# EAGLE library part ULN2803AFWG_C,ELHA (library ULN2803AFWG_C_ELHA)
8 Channel High Current Driver SOL18P-300 T+R Lead Source: Datasheet <https://componentsearchengine.com/Datasheets/1/ULN2803AFWG(C,ELHA.pdf>
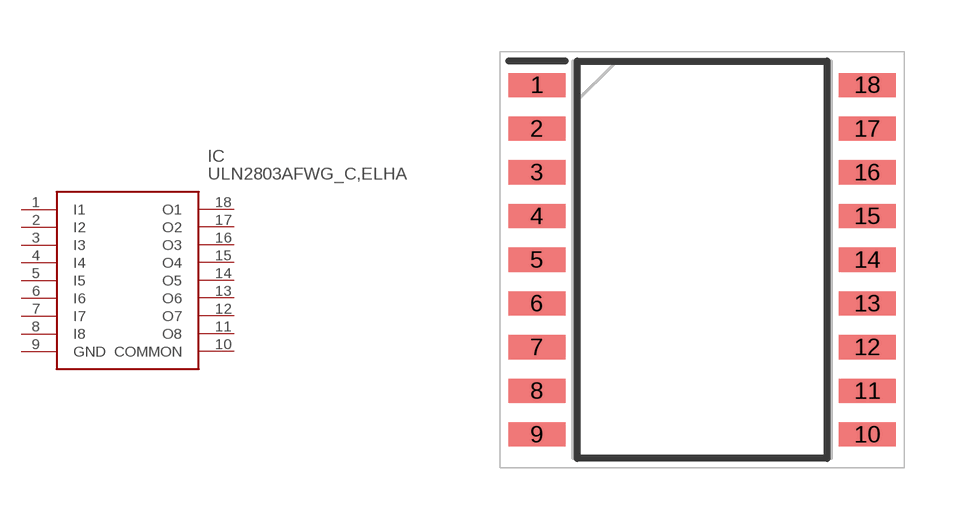
[diagram p0: symbol with the pads of SOIC127P1030X265-18N; footprint SOIC127P1030X265-18N]

Designator prefix IC

## ULN2803AFWG_C,ELHA (Arrow_Part_Number: ULN2803AFWG(C,ELHA; Arrow_Price-Stock: https://www.arrow.com/en/products/uln2803afwg-celha/toshiba; Description: 8 Channel High Current Driver SOL18P-300 T+R Lead; Height: 2.65mm; Manufacturer_Name: Toshiba; Manufacturer_Part_Number: ULN2803AFWG(C,ELHA; Mouser_Part_Number: 757-ULN2803AFWGCELHA; Mouser_Price-Stock: https://www.mouser.co.uk/ProductDetail/Toshiba/ULN2803AFWGCELHA?qs=QhGSDAOLffLyZyOzY3%2FYww%3D%3D)  [SOIC127P1030X265-18N]
1  I1
2  I2
3  I3
4  I4
5  I5
6  I6
7  I7
8  I8
9  GND
10  COMMON
11  O8
12  O7
13  O6
14  O5
15  O4
16  O3
17  O2
18  O1

## Footprint SOIC127P1030X265-18N (pad centres in mm)
SOL18−P−300−1.27
smd 1.65 x 0.7: 1 -4.8,5.08; 2 -4.8,3.81; 3 -4.8,2.54; 4 -4.8,1.27; 5 -4.8,0; 6 -4.8,-1.27; 7 -4.8,-2.54; 8 -4.8,-3.81; 9 -4.8,-5.08; 10 4.8,-5.08; 11 4.8,-3.81; 12 4.8,-2.54; 13 4.8,-1.27; 14 4.8,0; 15 4.8,1.27; 16 4.8,2.54; 17 4.8,3.81; 18 4.8,5.08